# Altium footprint library SCHOTTKY_20V_3A_SMB.PcbLib: 1 footprints
Each footprint in its own frame and in the unit in brackets; x right, y up, seen from the top. Pads: shape width x height; smd on the part's side, far side on the other; paste and mask are expansions set on the pad; w line width, h text height; cw(c..) or ccw(c..) is an arc to the next point about the centre after c.
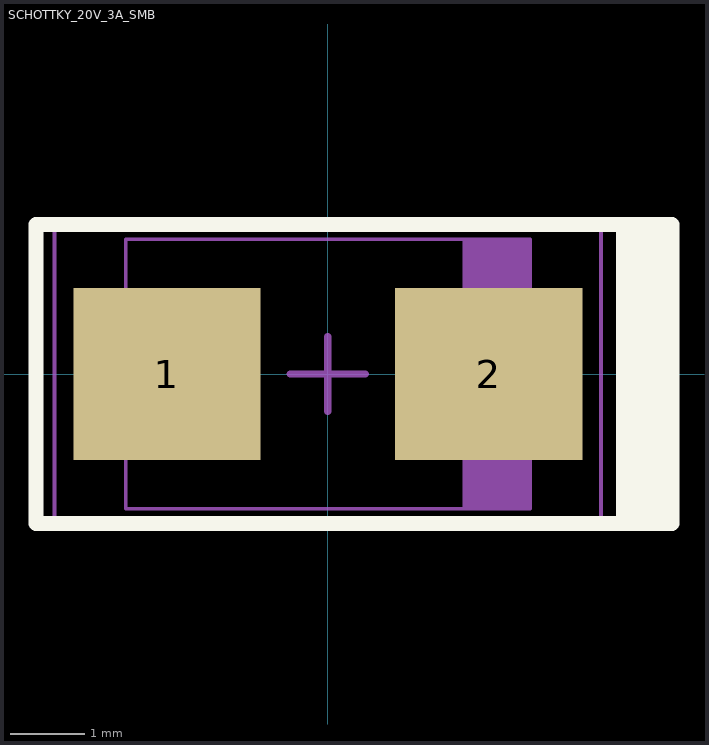
[diagram p0: the footprint, top view; thin cyan lines are the x and y axes]

## SCHOTTKY_20V_3A_SMB [mm]
pads (2):
  rect 2.5x2.3 smd: 1(-2.15,0) 2(2.15,0)
Top Overlay:
  rectangle: 3.85,-2 4.6,2
  lines w0.2: -3.9,-2 4.6,-2 4.6,2 -3.9,2 -3.9,-2
Top Assembly:
  rectangle: 1.8,-1.8 2.7,1.8
  lines w0.05: -2.7,-1.8 2.7,-1.8 2.7,1.8 -2.7,1.8 -2.7,-1.8
  text ".Designator" at -4.998,-0.333 h1
Top Courtyard:
  lines w0.05: -3.65,-2.05 3.65,-2.05 3.65,2.05 -3.65,2.05 -3.65,-2.05
  lines w0.1: -0.5,0 0.5,0 ; 0,-0.5 0,0.5
3D body "SCHOTTKY_20V_3A_SMB.step": height 2.32, standoff 0.01, extent -2.7,-1.8 2.7,1.8